# Altium schematic symbol library Boards.SchLib: 3 symbols
Pins are listed as number, name and electrical type; pins without a type are passive.

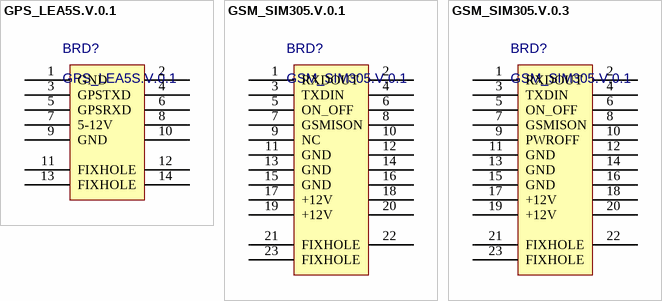
[diagram p0: symbols GPS_LEA5S.V.0.1 to GSM_SIM305.V.0.3]

## GPS_LEA5S.V.0.1
designator BRD?  (no BOM)
Value: GPS_LEA5S.V.0.1
footprint GPS_LEA5S.V.0.1
pins: 1 GND, 2 GND, 3 GPSTXD, 4 GPSTXD, 5 GPSRXD, 6 GPSRXD, 7 5-12V, 8 +12V, 9 GND, 10 GND, 11 FIXHOLE, 12 FIXHOLE, 13 FIXHOLE, 14 FIXHOLE

## GSM_SIM305.V.0.1
designator BRD?  (no BOM)
Value: GSM_SIM305.V.0.1
footprint GSM_SIM305.V.0.1
pins: 1 RXDOUT, 2 RXDOUT, 3 TXDIN, 4 TXDIN, 5 ON_OFF, 6 ON_OFF, 7 GSMISON, 8 GSMISON, 9 NC, 10 NC, 11 GND, 12 GND, 13 GND, 14 GND, 15 GND, 16 GND, 17 +12V, 18 +12V, 19 +12V, 20 +12V, 21 FIXHOLE, 22 FIXHOLE, 23 FIXHOLE

## GSM_SIM305.V.0.3
designator BRD?, comment GSM_SIM305.V.0.1  (no BOM)
Value: GSM_SIM305.V.0.1
footprint GSM_SIM305.V.0.1
pins: 1 RXDOUT, 2 RXDOUT, 3 TXDIN, 4 TXDIN, 5 ON_OFF, 6 ON_OFF, 7 GSMISON, 8 GSMISON, 9 PWROFF, 10 NC, 11 GND, 12 GND, 13 GND, 14 GND, 15 GND, 16 GND, 17 +12V, 18 +12V, 19 +12V, 20 +12V, 21 FIXHOLE, 22 FIXHOLE, 23 FIXHOLE